# EAGLE library part IC-ATMEGA32U2-NOOGROOVE (library ic)
NooGroove ATmega32U2 development board.
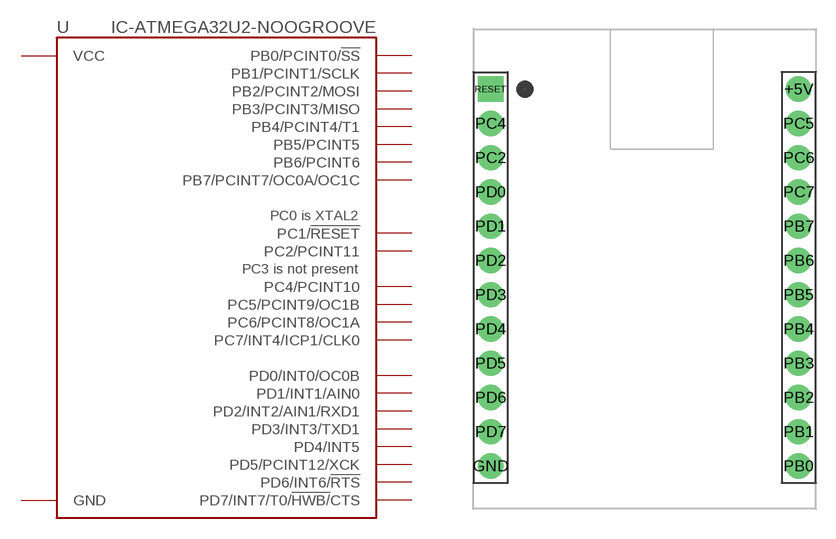
[diagram p0: symbol with the pads of IC-ATMEGA32U2-NOOGROOVE; footprint IC-ATMEGA32U2-NOOGROOVE]

Designator prefix U

## IC-ATMEGA32U2-NOOGROOVE  [IC-ATMEGA32U2-NOOGROOVE]
+5V  VCC  pwr
GND  GND  pwr
PB0  PB0/PCINT0/!SS
PB1  PB1/PCINT1/SCLK
PB2  PB2/PCINT2/MOSI
PB3  PB3/PCINT3/MISO
PB4  PB4/PCINT4/T1
PB5  PB5/PCINT5
PB6  PB6/PCINT6
PB7  PB7/PCINT7/OC0A/OC1C
PC2  PC2/PCINT11
PC4  PC4/PCINT10
PC5  PC5/PCINT9/OC1B
PC6  PC6/PCINT8/OC1A
PC7  PC7/INT4/ICP1/CLK0
PD0  PD0/INT0/OC0B
PD1  PD1/INT1/AIN0
PD2  PD2/INT2/AIN1/RXD1
PD3  PD3/INT3/TXD1
PD4  PD4/INT5
PD5  PD5/PCINT12/XCK
PD6  PD6/INT6/!RTS
PD7  PD7/INT7/T0/!HWB/!CTS
RESET  PC1/!RESET

## Footprint IC-ATMEGA32U2-NOOGROOVE (pad centres in mm)
drill 1.016 pad 1.88: +5V 11.43,13.97; GND -11.43,-13.97; PB0 11.43,-13.97; PB1 11.43,-11.43; PB2 11.43,-8.89; PB3 11.43,-6.35; PB4 11.43,-3.81; PB5 11.43,-1.27; PB6 11.43,1.27; PB7 11.43,3.81; PC2 -11.43,8.89; PC4 -11.43,11.43; PC5 11.43,11.43; PC6 11.43,8.89; PC7 11.43,6.35; PD0 -11.43,6.35; PD1 -11.43,3.81; PD2 -11.43,1.27; PD3 -11.43,-1.27; PD4 -11.43,-3.81; PD5 -11.43,-6.35; PD6 -11.43,-8.89; PD7 -11.43,-11.43
drill 1.016 pad 1.88 square: RESET -11.43,13.97